# Altium footprint library Transistors.PcbLib: 1 footprints
Each footprint in its own frame and in the unit in brackets; x right, y up, seen from the top. Pads: shape width x height; smd on the part's side, far side on the other; paste and mask are expansions set on the pad; w line width, h text height; cw(c..) or ccw(c..) is an arc to the next point about the centre after c.
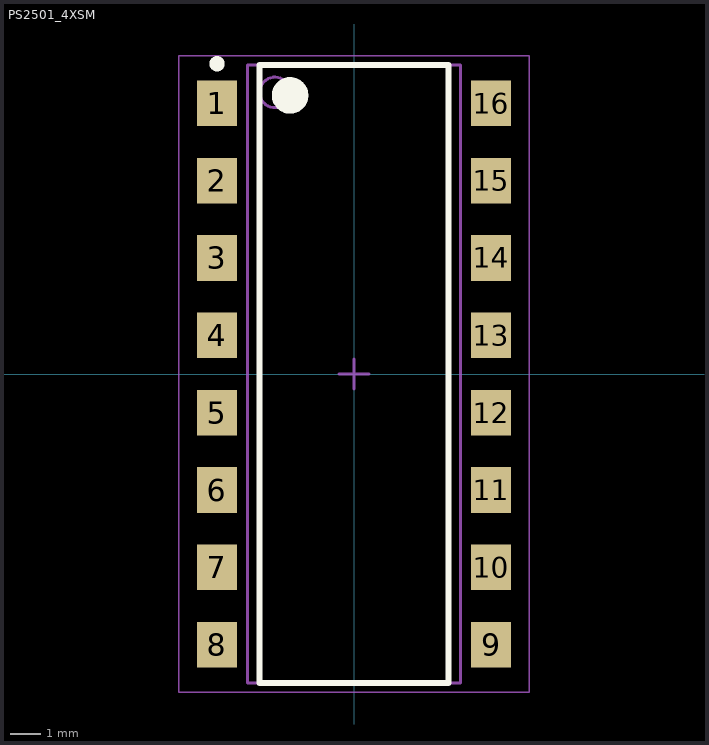
[diagram p0: the footprint, top view; thin cyan lines are the x and y axes]

## PS2501_4XSM [mm] "Array de optoacopladores"
height 4.6
pads (16):
  rect 1.3x1.5 smd: 1(-4.5,8.89) 2(-4.5,6.35) 3(-4.5,3.81) 4(-4.5,1.27) 5(-4.5,-1.27) 6(-4.5,-3.81) 7(-4.5,-6.35) 8(-4.5,-8.89) 9(4.5,-8.89) 10(4.5,-6.35) 11(4.5,-3.81) 12(4.5,-1.27) 13(4.5,1.27) 14(4.5,3.81) 15(4.5,6.35) 16(4.5,8.89)
Top Overlay:
  circle w0.25: c-4.5,10.19 r0.125
  circle w0.6: c-2.1,9.15 r0.3
  lines w0.2: -3.1,-10.15 -3.1,10.15 3.1,10.15 3.1,-10.15 -3.1,-10.15
Mechanical 13:
  circle w0.1: c-2.6,9.25 r0.5
  lines w0.1: -3.5,-10.15 -3.5,10.15 3.5,10.15 3.5,-10.15 -3.5,-10.15
Mechanical 15:
  lines w0.05: -5.75,-10.45 -5.75,10.45 5.75,10.45 5.75,-10.45 -5.75,-10.45
  lines w0.1: -0.5,0 0.5,0 ; 0,-0.5 0,0.5
3D body "SOP254P1020X460-16N.step": height 4.6, standoff 0, extent -5.08,-10.15 5.08,10.15